# Altium integrated library TI Microcontroller MSP430 16-bit Ultra-Low Power.IntLib: 1463 symbols (part 32 of 130)
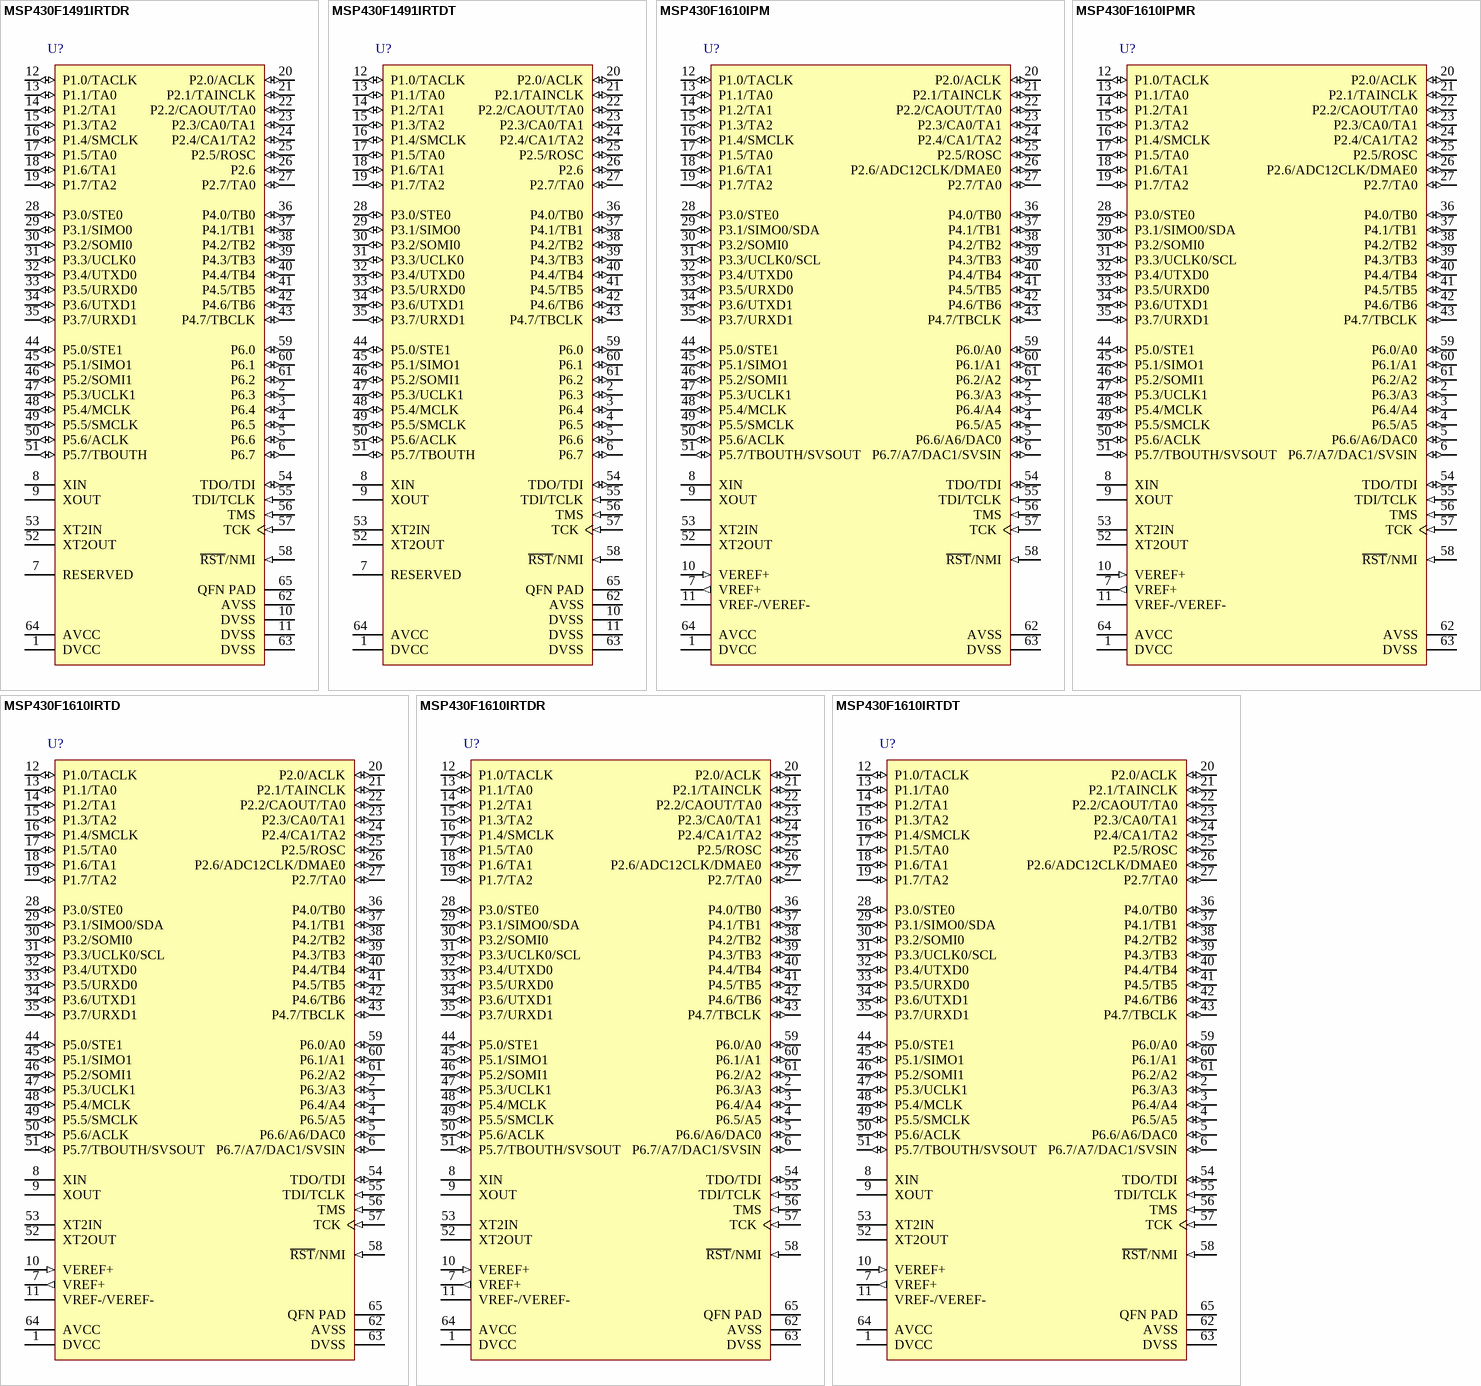
[diagram p352: symbols MSP430F1491IRTDR to MSP430F1610IRTDT]

## MSP430F1610IRTDT
designator U?
8 MHz Mixed Signal Microcontroller with 32 KB Flash, 5120 B SRAM and 48 GPIOs, -40 to 85 degC, 64-pin QFN (RTD), Green (RoHS & no Sb/Br); Manufacturer: Texas Instruments; PartNumber: MSP430F1610IRTDT; ADC: 12-bit SAR; ADC Channels: 8; Brown Out Reset: Yes; DAC: 1; DMA: 3; Flash(KB): 32; GPIO: 48; Multiplier: 16x16; SRAM(B): 5120; SubFamily: 1 Series; Timers - 16-bit: 2; USART: 2 with I, 2C; DatasheetVersion: SLAS368G; PackageReference: RTD64; PackageDescription: 64-Pin Plastic Flat Pack, Body 9 x 9 mm, Pitch 0.5 mm; Supplier 1: Digi-Key; Supplier Part Number 1: MSP430F1610IRTDR-ND; Supplier 2: Mouser; Supplier Part Number 2: 595-MSP430F1610IRTDR; Comparators: Yes; Eco-Plan: Green (RoHS & no Sb/Br); Frequency(MHz): 8; SVS: Yes; Temp Sensor: Yes; Watchdog: Yes; Mounting Technology: Surface Mount; ComponentLink1Description: Manufacturer URL; ComponentLink1URL: http://www.ti.com/; ComponentLink2Description: Datasheet; ComponentLink2URL: http://www.ti.com/general/docs/lit/getliterature.tsp?genericPartNumber=MSP430F1610&fileType=pdf; ComponentLink3Description: Package Specification; ComponentLink3URL: http://www.ti.com/lit/ds/symlink/msp430f1471.pdf
footprint TI-RTD64-4700X4700TP_N (QFN, 64-Leads, Body 9x9mm, Pitch 0.5mm, Thermal Pad 4.7x4.7mm, IPC Medium Density)
pins: 1 DVCC (power) "Digital supply voltage, positive terminal. Supplies all digital parts.", 2 P6.3/A3 (io), 3 P6.4/A4 (io), 4 P6.5/A5 (io), 5 P6.6/A6/DAC0 (io), 6 P6.7/A7/DAC1/SVSIN (io), 7 VREF+ (out) "Output of positive terminal of the reference voltage in the ADC12", 8 XIN "Input port for crystal oscillator XT1. Standard or watch crystals can be connected.", 9 XOUT "Output terminal of crystal oscillator XT1", 10 VEREF+ (in) "Input for an external reference voltage", 11 VREF-/VEREF-, 12 P1.0/TACLK (io), 13 P1.1/TA0 (io), 14 P1.2/TA1 (io), 15 P1.3/TA2 (io), 16 P1.4/SMCLK (io), 17 P1.5/TA0 (io), 18 P1.6/TA1 (io), 19 P1.7/TA2 (io), 20 P2.0/ACLK (io), 21 P2.1/TAINCLK (io), 22 P2.2/CAOUT/TA0 (io), 23 P2.3/CA0/TA1 (io), 24 P2.4/CA1/TA2 (io), 25 P2.5/ROSC (io), 26 P2.6/ADC12CLK/DMAE0 (io), 27 P2.7/TA0 (io), 28 P3.0/STE0 (io), 29 P3.1/SIMO0/SDA (io), 30 P3.2/SOMI0 (io), 31 P3.3/UCLK0/SCL (io), 32 P3.4/UTXD0 (io), 33 P3.5/URXD0 (io), 34 P3.6/UTXD1 (io), 35 P3.7/URXD1 (io), 36 P4.0/TB0 (io), 37 P4.1/TB1 (io), 38 P4.2/TB2 (io), 39 P4.3/TB3 (io), 40 P4.4/TB4 (io), 41 P4.5/TB5 (io), 42 P4.6/TB6 (io), 43 P4.7/TBCLK (io), 44 P5.0/STE1 (io), 45 P5.1/SIMO1 (io), 46 P5.2/SOMI1 (io), 47 P5.3/UCLK1 (io), 48 P5.4/MCLK (io), 49 P5.5/SMCLK (io), 50 P5.6/ACLK (io), 51 P5.7/TBOUTH/SVSOUT (io), 52 XT2OUT "Output terminal of crystal oscillator XT2", 53 XT2IN "Input port for crystal oscillator XT2. Only standard crystals can be connected.", 54 TDO/TDI (io), 55 TDI/TCLK (in), 56 TMS (in) "Test mode select. TMS is used as an input port for device programming and test.", 57 TCK (in) "Test clock. TCK is the clock input port for device programming test and bootstrap loader start", 58 ~{RST}/NMI (in), 59 P6.0/A0 (io), 60 P6.1/A1 (io), 61 P6.2/A2 (io), 62 AVSS (power) "Analog supply voltage, negative terminal. Supplies only the analog portion of ADC12 and DAC12.", 63 DVSS (power) "Digital supply voltage, negative terminal. Supplies all digital parts.", 64 AVCC (power) "Analog supply voltage, positive terminal. Supplies only the analog portion of ADC12 and DAC12", 65 QFN PAD (power) "QFN package pad connection to DVSS recommended (RTD package only)"

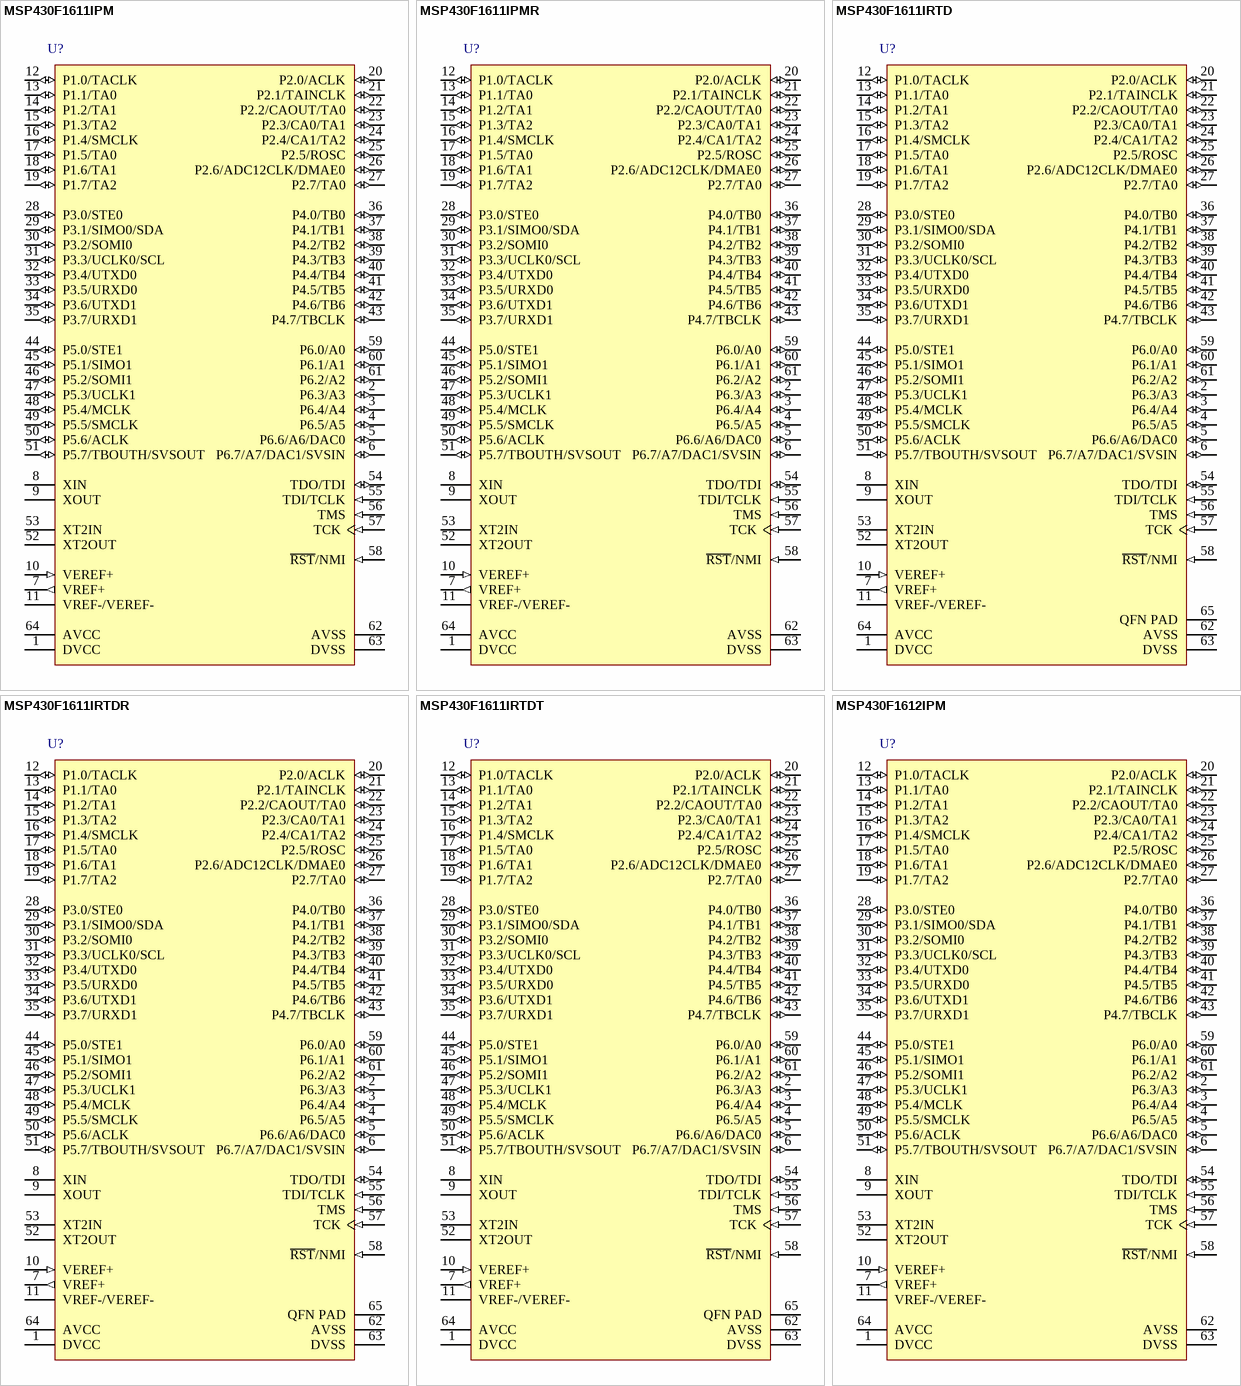
[diagram p46: symbols MSP430F1611IPM to MSP430F1612IPM]

## MSP430F1611IPM
designator U?
8 MHz Mixed Signal Microcontroller with 48 KB Flash, 10240 B SRAM and 48 GPIOs, -40 to 85 degC, 64-pin QFP (PM), Green (RoHS & no Sb/Br); Manufacturer: Texas Instruments; PartNumber: MSP430F1611IPM; ADC: 12-bit SAR; ADC Channels: 8; Brown Out Reset: Yes; DAC: 1; DMA: 3; Flash(KB): 48; Multiplier: 16x16; SRAM(B): 10240; SubFamily: 1 Series; Timers - 16-bit: 2; USART: 2 with I, 2C; DatasheetVersion: SLAS368G; PackageVersion: 4040152/C; PackageReference: PM64; PackageDescription: 64-Pin Plastic Quad Flat Pack, Body 10 x 10 mm, Pitch 0.5 mm; Supplier 1: Digi-Key; Supplier Part Number 1: 296-18101-2-ND; Supplier 2: Digi-Key; Supplier Part Number 2: 296-18101-1-ND; Supplier 3: Digi-Key; Supplier Part Number 3: 296-18101-6-ND; Supplier 4: Farnell; Supplier Part Number 4: 1649392; Supplier 5: Mouser; Supplier Part Number 5: 595-MSP430F1610IRTDT; Comparators: Yes; Eco-Plan: Green (RoHS & no Sb/Br); Frequency(MHz): 8; GPIO: 48; SVS: Yes; Temp Sensor: Yes; Watchdog: Yes; Mounting Technology: Surface Mount; Code_JEDEC: MS-026; ComponentLink1Description: Manufacturer URL; ComponentLink1URL: http://www.ti.com/; ComponentLink2Description: Datasheet; ComponentLink2URL: http://www.ti.com/general/docs/lit/getliterature.tsp?genericPartNumber=MSP430F1611&fileType=pdf; ComponentLink3Description: Package Specification; ComponentLink3URL: http://www.ti.com/lit/ml/mtqf008a/mtqf008a.pdf
footprint TI-PM64_N (QFP, 64-Leads, Body 10x10mm, Pitch 0.5mm, IPC Medium Density)
pins: 1 DVCC (power) "Digital supply voltage, positive terminal. Supplies all digital parts.", 2 P6.3/A3 (io), 3 P6.4/A4 (io), 4 P6.5/A5 (io), 5 P6.6/A6/DAC0 (io), 6 P6.7/A7/DAC1/SVSIN (io), 7 VREF+ (out) "Output of positive terminal of the reference voltage in the ADC12", 8 XIN "Input port for crystal oscillator XT1. Standard or watch crystals can be connected.", 9 XOUT "Output terminal of crystal oscillator XT1", 10 VEREF+ (in) "Input for an external reference voltage", 11 VREF-/VEREF-, 12 P1.0/TACLK (io), 13 P1.1/TA0 (io), 14 P1.2/TA1 (io), 15 P1.3/TA2 (io), 16 P1.4/SMCLK (io), 17 P1.5/TA0 (io), 18 P1.6/TA1 (io), 19 P1.7/TA2 (io), 20 P2.0/ACLK (io), 21 P2.1/TAINCLK (io), 22 P2.2/CAOUT/TA0 (io), 23 P2.3/CA0/TA1 (io), 24 P2.4/CA1/TA2 (io), 25 P2.5/ROSC (io), 26 P2.6/ADC12CLK/DMAE0 (io), 27 P2.7/TA0 (io), 28 P3.0/STE0 (io), 29 P3.1/SIMO0/SDA (io), 30 P3.2/SOMI0 (io), 31 P3.3/UCLK0/SCL (io), 32 P3.4/UTXD0 (io), 33 P3.5/URXD0 (io), 34 P3.6/UTXD1 (io), 35 P3.7/URXD1 (io), 36 P4.0/TB0 (io), 37 P4.1/TB1 (io), 38 P4.2/TB2 (io), 39 P4.3/TB3 (io), 40 P4.4/TB4 (io), 41 P4.5/TB5 (io), 42 P4.6/TB6 (io), 43 P4.7/TBCLK (io), 44 P5.0/STE1 (io), 45 P5.1/SIMO1 (io), 46 P5.2/SOMI1 (io), 47 P5.3/UCLK1 (io), 48 P5.4/MCLK (io), 49 P5.5/SMCLK (io), 50 P5.6/ACLK (io), 51 P5.7/TBOUTH/SVSOUT (io), 52 XT2OUT "Output terminal of crystal oscillator XT2", 53 XT2IN "Input port for crystal oscillator XT2. Only standard crystals can be connected.", 54 TDO/TDI (io), 55 TDI/TCLK (in), 56 TMS (in) "Test mode select. TMS is used as an input port for device programming and test.", 57 TCK (in) "Test clock. TCK is the clock input port for device programming test and bootstrap loader start", 58 ~{RST}/NMI (in), 59 P6.0/A0 (io), 60 P6.1/A1 (io), 61 P6.2/A2 (io), 62 AVSS (power) "Analog supply voltage, negative terminal. Supplies only the analog portion of ADC12 and DAC12.", 63 DVSS (power) "Digital supply voltage, negative terminal. Supplies all digital parts.", 64 AVCC (power) "Analog supply voltage, positive terminal. Supplies only the analog portion of ADC12 and DAC12"

## MSP430F1611IPMR
designator U?
8 MHz Mixed Signal Microcontroller with 48 KB Flash, 10240 B SRAM and 48 GPIOs, -40 to 85 degC, 64-pin QFP (PM), Green (RoHS & no Sb/Br); Manufacturer: Texas Instruments; PartNumber: MSP430F1611IPMR; ADC: 12-bit SAR; ADC Channels: 8; Brown Out Reset: Yes; DAC: 1; DMA: 3; Flash(KB): 48; Multiplier: 16x16; SRAM(B): 10240; SubFamily: 1 Series; Timers - 16-bit: 2; USART: 2 with I, 2C; DatasheetVersion: SLAS368G; PackageVersion: 4040152/C; PackageReference: PM64; PackageDescription: 64-Pin Plastic Quad Flat Pack, Body 10 x 10 mm, Pitch 0.5 mm; Supplier 1: Digi-Key; Supplier Part Number 1: 296-17205-ND; Supplier 2: Farnell; Supplier Part Number 2: 1470487; Supplier 3: Newark; Supplier Part Number 3: 21J8845; Supplier 4: Mouser; Supplier Part Number 4: 595-MSP430F1611IPM; Comparators: Yes; Eco-Plan: Green (RoHS & no Sb/Br); Frequency(MHz): 8; GPIO: 48; SVS: Yes; Temp Sensor: Yes; Watchdog: Yes; Mounting Technology: Surface Mount; Code_JEDEC: MS-026; ComponentLink1Description: Manufacturer URL; ComponentLink1URL: http://www.ti.com/; ComponentLink2Description: Datasheet; ComponentLink2URL: http://www.ti.com/general/docs/lit/getliterature.tsp?genericPartNumber=MSP430F1611&fileType=pdf; ComponentLink3Description: Package Specification; ComponentLink3URL: http://www.ti.com/lit/ml/mtqf008a/mtqf008a.pdf
footprint TI-PM64_N (QFP, 64-Leads, Body 10x10mm, Pitch 0.5mm, IPC Medium Density)
pins: 1 DVCC (power) "Digital supply voltage, positive terminal. Supplies all digital parts.", 2 P6.3/A3 (io), 3 P6.4/A4 (io), 4 P6.5/A5 (io), 5 P6.6/A6/DAC0 (io), 6 P6.7/A7/DAC1/SVSIN (io), 7 VREF+ (out) "Output of positive terminal of the reference voltage in the ADC12", 8 XIN "Input port for crystal oscillator XT1. Standard or watch crystals can be connected.", 9 XOUT "Output terminal of crystal oscillator XT1", 10 VEREF+ (in) "Input for an external reference voltage", 11 VREF-/VEREF-, 12 P1.0/TACLK (io), 13 P1.1/TA0 (io), 14 P1.2/TA1 (io), 15 P1.3/TA2 (io), 16 P1.4/SMCLK (io), 17 P1.5/TA0 (io), 18 P1.6/TA1 (io), 19 P1.7/TA2 (io), 20 P2.0/ACLK (io), 21 P2.1/TAINCLK (io), 22 P2.2/CAOUT/TA0 (io), 23 P2.3/CA0/TA1 (io), 24 P2.4/CA1/TA2 (io), 25 P2.5/ROSC (io), 26 P2.6/ADC12CLK/DMAE0 (io), 27 P2.7/TA0 (io), 28 P3.0/STE0 (io), 29 P3.1/SIMO0/SDA (io), 30 P3.2/SOMI0 (io), 31 P3.3/UCLK0/SCL (io), 32 P3.4/UTXD0 (io), 33 P3.5/URXD0 (io), 34 P3.6/UTXD1 (io), 35 P3.7/URXD1 (io), 36 P4.0/TB0 (io), 37 P4.1/TB1 (io), 38 P4.2/TB2 (io), 39 P4.3/TB3 (io), 40 P4.4/TB4 (io), 41 P4.5/TB5 (io), 42 P4.6/TB6 (io), 43 P4.7/TBCLK (io), 44 P5.0/STE1 (io), 45 P5.1/SIMO1 (io), 46 P5.2/SOMI1 (io), 47 P5.3/UCLK1 (io), 48 P5.4/MCLK (io), 49 P5.5/SMCLK (io), 50 P5.6/ACLK (io), 51 P5.7/TBOUTH/SVSOUT (io), 52 XT2OUT "Output terminal of crystal oscillator XT2", 53 XT2IN "Input port for crystal oscillator XT2. Only standard crystals can be connected.", 54 TDO/TDI (io), 55 TDI/TCLK (in), 56 TMS (in) "Test mode select. TMS is used as an input port for device programming and test.", 57 TCK (in) "Test clock. TCK is the clock input port for device programming test and bootstrap loader start", 58 ~{RST}/NMI (in), 59 P6.0/A0 (io), 60 P6.1/A1 (io), 61 P6.2/A2 (io), 62 AVSS (power) "Analog supply voltage, negative terminal. Supplies only the analog portion of ADC12 and DAC12.", 63 DVSS (power) "Digital supply voltage, negative terminal. Supplies all digital parts.", 64 AVCC (power) "Analog supply voltage, positive terminal. Supplies only the analog portion of ADC12 and DAC12"

## MSP430F1611IRTD
designator U?
8 MHz Mixed Signal Microcontroller with 48 KB Flash, 10240 B SRAM and 48 GPIOs, -40 to 85 degC, 64-pin QFN (RTD); Manufacturer: Texas Instruments; PartNumber: MSP430F1611IRTD; ADC: 12-bit SAR; ADC Channels: 8; Brown Out Reset: Yes; DAC: 1; DMA: 3; Flash(KB): 48; Multiplier: 16x16; SRAM(B): 10240; SubFamily: 1 Series; Timers - 16-bit: 2; USART: 2 with I, 2C; DatasheetVersion: SLAS368G; PackageReference: RTD64; PackageDescription: 64-Pin Plastic Flat Pack, Body 9 x 9 mm, Pitch 0.5 mm; Supplier 1: Digi-Key; Supplier Part Number 1: 296-26188-2-ND; Supplier 2: Digi-Key; Supplier Part Number 2: 296-26188-1-ND; Supplier 3: Digi-Key; Supplier Part Number 3: 296-26188-6-ND; Supplier 4: Newark; Supplier Part Number 4: 21J8846; Supplier 5: Mouser; Supplier Part Number 5: 595-MSP430F1611IPMR; Comparators: Yes; Frequency(MHz): 8; GPIO: 48; SVS: Yes; Temp Sensor: Yes; Watchdog: Yes; Mounting Technology: Surface Mount; ComponentLink1Description: Manufacturer URL; ComponentLink1URL: http://www.ti.com/; ComponentLink2Description: Datasheet; ComponentLink2URL: http://www.ti.com/general/docs/lit/getliterature.tsp?genericPartNumber=MSP430F1611&fileType=pdf; ComponentLink3Description: Package Specification; ComponentLink3URL: http://www.ti.com/lit/ds/symlink/msp430f1471.pdf
footprint TI-RTD64-4700X4700TP_N (QFN, 64-Leads, Body 9x9mm, Pitch 0.5mm, Thermal Pad 4.7x4.7mm, IPC Medium Density)
pins: 1 DVCC (power) "Digital supply voltage, positive terminal. Supplies all digital parts.", 2 P6.3/A3 (io), 3 P6.4/A4 (io), 4 P6.5/A5 (io), 5 P6.6/A6/DAC0 (io), 6 P6.7/A7/DAC1/SVSIN (io), 7 VREF+ (out) "Output of positive terminal of the reference voltage in the ADC12", 8 XIN "Input port for crystal oscillator XT1. Standard or watch crystals can be connected.", 9 XOUT "Output terminal of crystal oscillator XT1", 10 VEREF+ (in) "Input for an external reference voltage", 11 VREF-/VEREF-, 12 P1.0/TACLK (io), 13 P1.1/TA0 (io), 14 P1.2/TA1 (io), 15 P1.3/TA2 (io), 16 P1.4/SMCLK (io), 17 P1.5/TA0 (io), 18 P1.6/TA1 (io), 19 P1.7/TA2 (io), 20 P2.0/ACLK (io), 21 P2.1/TAINCLK (io), 22 P2.2/CAOUT/TA0 (io), 23 P2.3/CA0/TA1 (io), 24 P2.4/CA1/TA2 (io), 25 P2.5/ROSC (io), 26 P2.6/ADC12CLK/DMAE0 (io), 27 P2.7/TA0 (io), 28 P3.0/STE0 (io), 29 P3.1/SIMO0/SDA (io), 30 P3.2/SOMI0 (io), 31 P3.3/UCLK0/SCL (io), 32 P3.4/UTXD0 (io), 33 P3.5/URXD0 (io), 34 P3.6/UTXD1 (io), 35 P3.7/URXD1 (io), 36 P4.0/TB0 (io), 37 P4.1/TB1 (io), 38 P4.2/TB2 (io), 39 P4.3/TB3 (io), 40 P4.4/TB4 (io), 41 P4.5/TB5 (io), 42 P4.6/TB6 (io), 43 P4.7/TBCLK (io), 44 P5.0/STE1 (io), 45 P5.1/SIMO1 (io), 46 P5.2/SOMI1 (io), 47 P5.3/UCLK1 (io), 48 P5.4/MCLK (io), 49 P5.5/SMCLK (io), 50 P5.6/ACLK (io), 51 P5.7/TBOUTH/SVSOUT (io), 52 XT2OUT "Output terminal of crystal oscillator XT2", 53 XT2IN "Input port for crystal oscillator XT2. Only standard crystals can be connected.", 54 TDO/TDI (io), 55 TDI/TCLK (in), 56 TMS (in) "Test mode select. TMS is used as an input port for device programming and test.", 57 TCK (in) "Test clock. TCK is the clock input port for device programming test and bootstrap loader start", 58 ~{RST}/NMI (in), 59 P6.0/A0 (io), 60 P6.1/A1 (io), 61 P6.2/A2 (io), 62 AVSS (power) "Analog supply voltage, negative terminal. Supplies only the analog portion of ADC12 and DAC12.", 63 DVSS (power) "Digital supply voltage, negative terminal. Supplies all digital parts.", 64 AVCC (power) "Analog supply voltage, positive terminal. Supplies only the analog portion of ADC12 and DAC12", 65 QFN PAD (power) "QFN package pad connection to DVSS recommended (RTD package only)"